# EAGLE library part 315 (library memory)
MEMORY
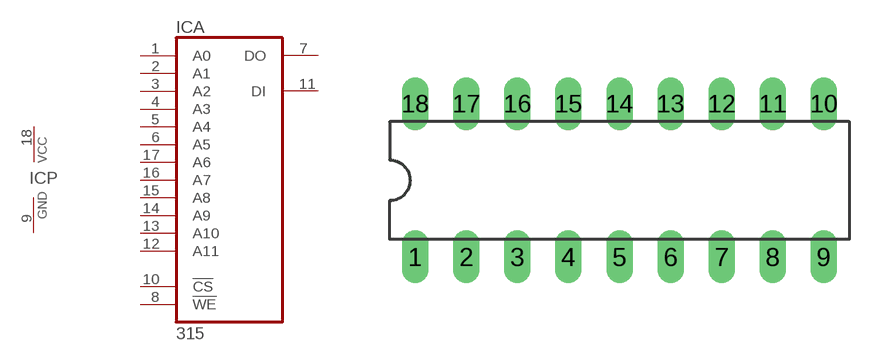
[diagram p28: symbol with the pads of DIL18; footprint DIL18]

Designator prefix IC; gates A=315 P=PWRN

## 315  [DIL18]
1  A:A0  in
2  A:A1  in
3  A:A2  in
4  A:A3  in
5  A:A4  in
6  A:A5  in
7  A:DO  hiz
8  A:!WE  in
9  P:GND  pwr
10  A:!CS  in
11  A:DI  in
12  A:A11  in
13  A:A10  in
14  A:A9  in
15  A:A8  in
16  A:A7  in
17  A:A6  in
18  P:VCC  pwr

## Footprint DIL18 (pad centres in mm)
Dual In Line Package
drill 0.813 long: 1 -10.16,-3.81; 2 -7.62,-3.81; 3 -5.08,-3.81; 4 -2.54,-3.81; 5 0,-3.81; 6 2.54,-3.81; 7 5.08,-3.81; 8 7.62,-3.81; 9 10.16,-3.81; 10 10.16,3.81; 11 7.62,3.81; 12 5.08,3.81; 13 2.54,3.81; 14 0,3.81; 15 -2.54,3.81; 16 -5.08,3.81; 17 -7.62,3.81; 18 -10.16,3.81